# EAGLE library part IR2117PBF (library International_Rectifier_By_element14_Batch_1)
SINGLE CHANNEL DRIVER
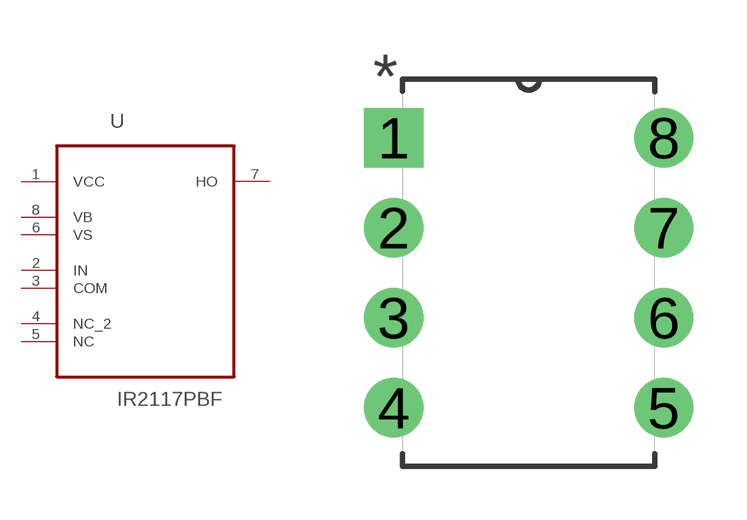
[diagram p54: symbol with the pads of DIP254P762X533-8; footprint DIP254P762X533-8]

Designator prefix U

## IR2117PBF (MPN: IR2117PBF; OC_FARNELL: 9101756; OC_NEWARK: 19K8419; PACKAGE: PDIP; SUPPLIER: INTERNATIONAL RECTIFIER)  [DIP254P762X533-8]
1  VCC  pwr
2  IN  in
3  COM  pas
4  NC_2  nc
5  NC  nc
6  VS  pwr
7  HO  out
8  VB  pwr

## Footprint DIP254P762X533-8 (pad centres in mm)
drill 1.118 square: 1 -7.62,7.62
drill 1.118: 2 -7.62,5.08; 3 -7.62,2.54; 4 -7.62,0; 5 0,0; 6 0,2.54; 7 0,5.08; 8 0,7.62